# EAGLE library part 50PINCONN (library MSX-50 pin BUS HEADER)
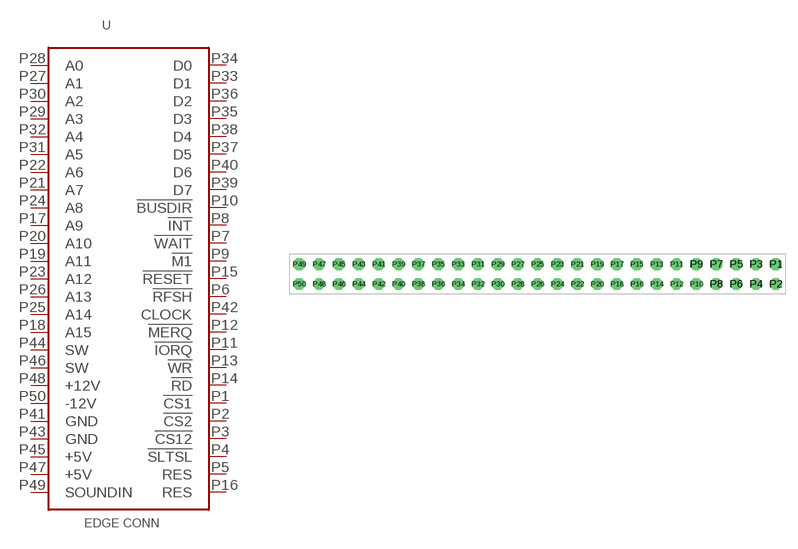
[diagram p0: symbol with the pads of MSX50PINHEADER; footprint MSX50PINHEADER]

Designator prefix -

## 50PINCONN  [MSX50PINHEADER]
P1  !CS1  out
P2  !CS2  out
P3  !CS12  out
P4  !SLTSL  out
P5  RES  nc
P6  !RFSH  out
P7  !WAIT  oc
P8  !INT  oc
P9  !M1  out
P10  !BUSDIR  in
P11  !IORQ  out
P12  !MERQ  out
P13  !WR  out
P14  !RD  out
P15  !RESET  out
P16  RES  nc
P17  A9  out
P18  A15  out
P19  A11  out
P20  A10  out
P21  A7  out
P22  A6  out
P23  A12  out
P24  A8  out
P25  A14  out
P26  A13  out
P27  A1  out
P28  A0  out
P29  A3  out
P30  A2  out
P31  A5  out
P32  A4  out
P33  D1
P34  D0
P35  D3
P36  D2
P37  D5
P38  D4
P39  D7
P40  D6
P41  GND  sup
P42  CLOCK  out
P43  GND  sup
P44  SW  pas
P45  +5V  pwr
P46  SW  pas
P47  +5V  pwr
P48  +12V  sup
P49  SOUNDIN  pas
P50  -12V  sup

## Footprint MSX50PINHEADER (pad centres in mm)
drill 1.016 octagon: P1 25.4,1.27; P2 25.4,-1.27; P3 22.86,1.27; P4 22.86,-1.27; P5 20.32,1.27; P6 20.32,-1.27; P7 17.78,1.27; P8 17.78,-1.27; P9 15.24,1.27; P10 15.24,-1.27; P11 12.7,1.27; P12 12.7,-1.27; P13 10.16,1.27; P14 10.16,-1.27; P15 7.62,1.27; P16 7.62,-1.27; P17 5.08,1.27; P18 5.08,-1.27; P19 2.54,1.27; P20 2.54,-1.27; P21 0,1.27; P22 0,-1.27; P23 -2.54,1.27; P24 -2.54,-1.27; P25 -5.08,1.27; P26 -5.08,-1.27; P27 -7.62,1.27; P28 -7.62,-1.27; P29 -10.16,1.27; P30 -10.16,-1.27; P31 -12.7,1.27; P32 -12.7,-1.27; P33 -15.24,1.27; P34 -15.24,-1.27; P35 -17.78,1.27; P36 -17.78,-1.27; P37 -20.32,1.27; P38 -20.32,-1.27; P39 -22.86,1.27; P40 -22.86,-1.27; P41 -25.4,1.27; P42 -25.4,-1.27; P43 -27.94,1.27; P44 -27.94,-1.27; P45 -30.48,1.27; P46 -30.48,-1.27; P47 -33.02,1.27; P48 -33.02,-1.27; P49 -35.56,1.27; P50 -35.56,-1.27